# Altium schematic symbol library NCP1117-DPAK.SchLib: 1 symbol
Pins are listed as number, name and electrical type; pins without a type are passive.

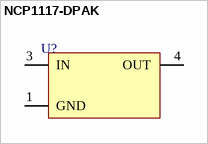
[diagram p0: symbol NCP1117-DPAK]

## NCP1117-DPAK
designator U?  (value not drawn)
pins: 1 GND, 3 IN, 4 OUT